# Altium schematic symbol library ind.Schlib: 3 symbols
Pins are listed as number, name and electrical type; pins without a type are passive.

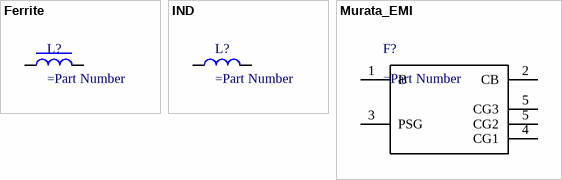
[diagram p0: symbols Ferrite to Murata_EMI]

## Ferrite
designator L?
pins: 1, 2

## IND
designator L?
pins: 1, 2

## Murata_EMI
designator F?
pins: 1 B, 2 CB, 3 PSG, 4 CG1, 5 CG2, 5 CG3